# Altium footprint library SignalCommunications.PCBLIB: 466 footprints (part 1 of 30)
Each footprint in its own frame and in the unit in brackets; x right, y up, seen from the top. Pads: shape width x height; smd on the part's side, far side on the other; paste and mask are expansions set on the pad; w line width, h text height; cw(c..) or ccw(c..) is an arc to the next point about the centre after c.
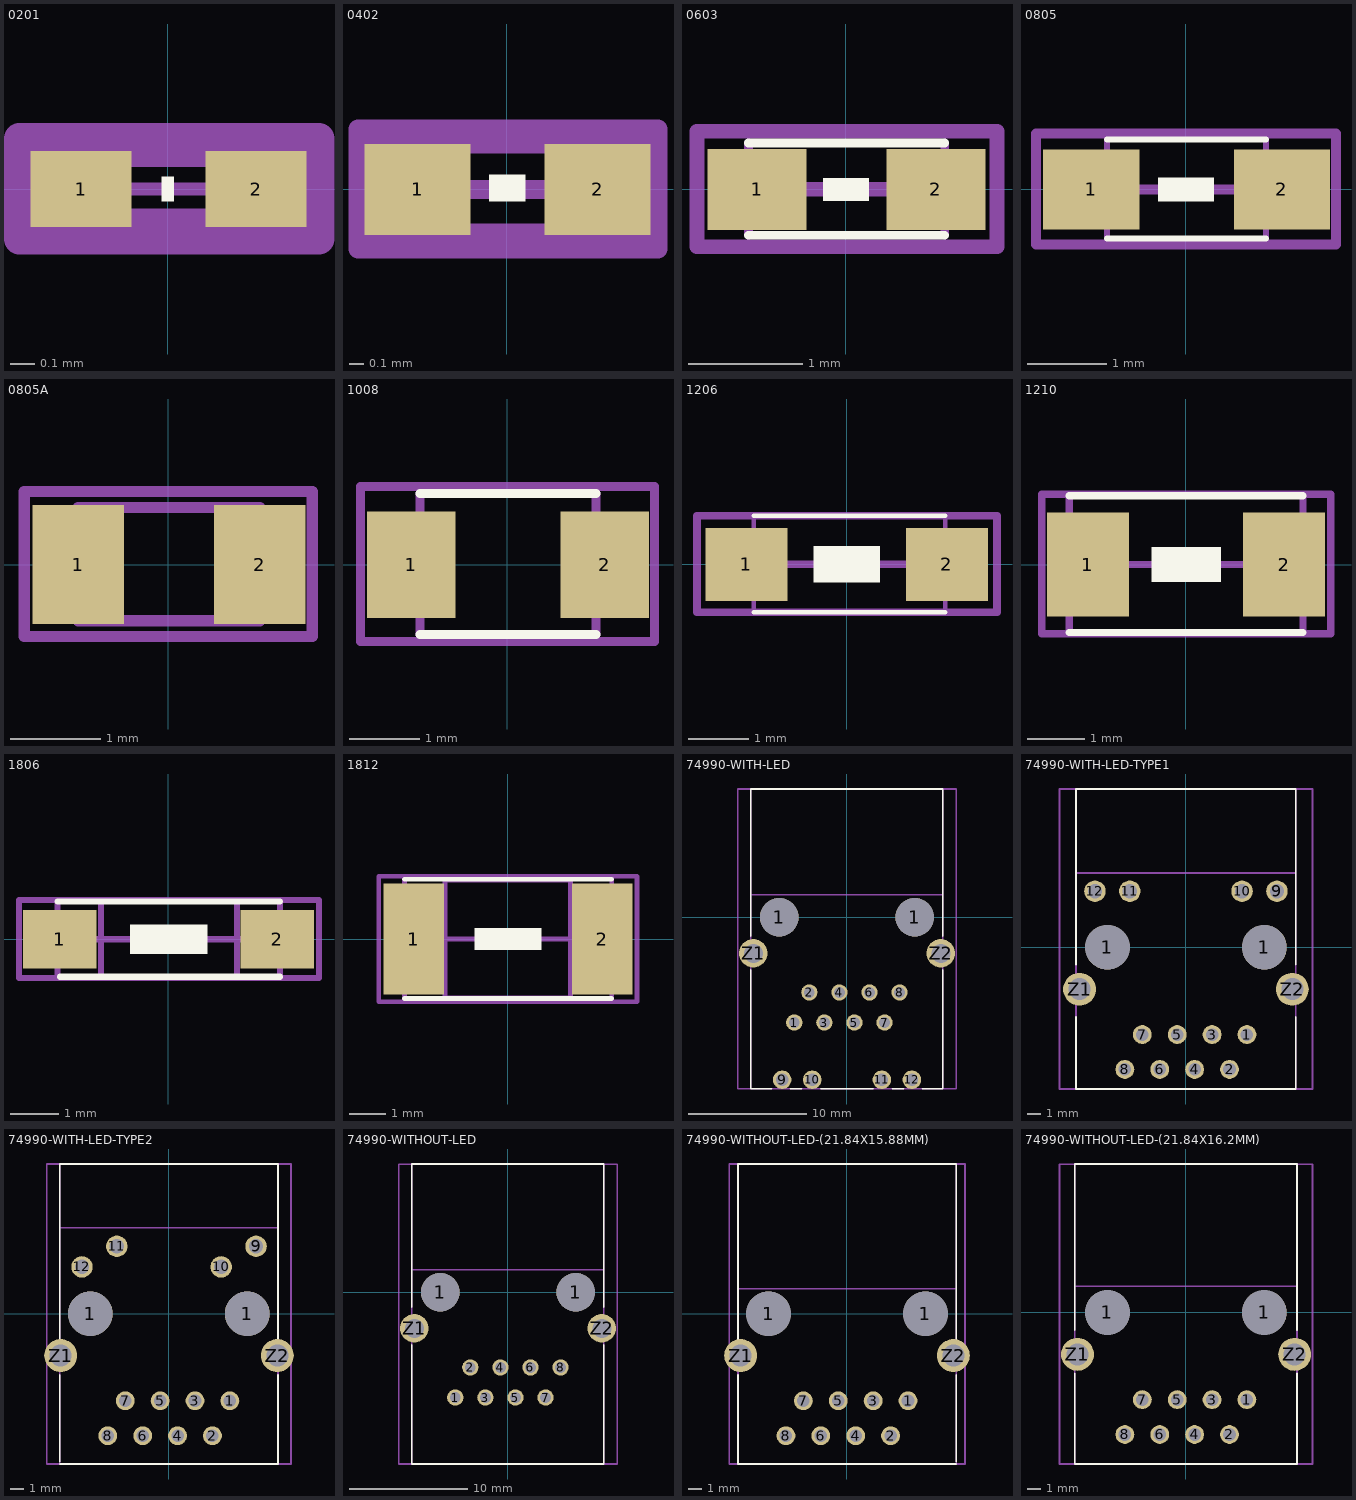
[diagram p0: the footprints below, top view; thin cyan lines are the x and y axes]

## 0201 [mil]
pads (2):
  rect 16x12 smd: 1(-13.78,0) 2(14,0)
Top Overlay:
  rectangle: -0.98,-1.97 1,2
Mechanical 16:
  lines w2: -13.78,0 14,0
  lines w5: -21.59,6 -21.59,-5.56 22,-5.56 22,6 -21.54,6
Mechanical 27:
  lines w5: -23.62,-7.87 24,-7.87 24,8 -23.62,8 -23.62,-7.87

## 0402 [mil]
pads (2):
  rect 28x24 smd: 1(-23.62,0) 2(24,0)
Top Overlay:
  rectangle: -4.72,-3.15 5,4
Mechanical 16:
  lines w5: -23.62,0 24,0 ; -37.29,-11.51 38,-11.51 38,12 -37.29,12 -37.29,-11.51
Mechanical 27:
  lines w5: -39.37,-15.75 40,-15.75 40,16 -39.37,16 -39.37,-15.75

## 0603 [mil]
pads (2):
  rect 34x28 smd: 1(-30.51,0) 2(31,0)
Top Overlay:
  rectangle: -7.87,-3.94 8,4
  lines w3: -33.46,-15.75 34,-15.75 ; -33.46,16 34,16
Mechanical 16:
  lines w3: -33.46,-15.75 -33.46,16 ; 34,-15.75 34,16
  lines w5: -31.5,0 32,0
Mechanical 27:
  lines w5: -51.18,-19.68 52,-19.68 52,20 -51.18,20 -51.18,-19.68

## 0805 [mil]
pads (2):
  rect 48x40 smd: 1(-47.24,0) 2(48,0)
Top Overlay:
  rectangle: -13.78,-5.91 14,6
  lines w3: -39.37,-24.61 40,-24.61 ; -39.37,25 40,25
Mechanical 16:
  lines w3: -39.37,-24.61 -39.37,25 ; 40,-24.61 40,25
  lines w5: -51.18,0 48,0
Mechanical 27:
  lines w5: -74.8,-27.56 75,-27.56 75,28 -74.8,28 -74.8,-27.56

## 0805A [mil]
pads (2):
  rect 40x52 smd: 1(-39.37,0) 2(40,0)
Mechanical 16:
  lines w5: -39.37,-24.61 40,-24.61 40,25 -39.37,25 -39.37,-24.61
Mechanical 27:
  lines w5: -62.99,-31.5 63,-31.5 63,32 -62.99,32 -62.99,-31.5

## 1008 [mil]
pads (2):
  rect 50x60 smd: 1(-54.13,0) 2(55,0)
Top Overlay:
  lines w5: -49.21,-39.37 50,-39.37 ; -49.21,40 50,40
Mechanical 16:
  lines w5: -49.21,-39.37 -49.21,40 ; 50,-39.37 50,40
Mechanical 27:
  lines w5: -82.68,-43.31 83,-43.31 83,44 -82.68,44 -82.68,-43.31

## 1206 [mil]
pads (2):
  rect 54x48 smd: 1(-65.94,0) 2(66,0)
Top Overlay:
  rectangle: -21.65,-11.81 22,12
  lines w3: -61.02,-31.5 65,-31.5 ; -61.02,32 65,32
Mechanical 16:
  lines w3: -61.02,-31.5 -61.02,32 ; 65,-31.5 65,32
  lines w5: -64.96,0 69,0
Mechanical 27:
  lines w5: -98.43,-31.5 99,-31.5 99,32 -98.43,32 -98.43,-31.5

## 1210 [mil]
pads (2):
  rect 56x71 smd: 1(-66.93,0) 2(67,0)
Top Overlay:
  rectangle: -23.62,-11.81 24,12
  lines w5: -79.63,-46.37 80,-46.37 ; -79.63,47 80,47
Mechanical 16:
  lines w5: -79.63,-46.37 -79.63,47 ; -66.93,0 71,0 ; 80,-46.37 80,47
Mechanical 27:
  lines w5: -98.43,-47.24 99,-47.24 99,48 -98.43,48 -98.43,-47.24

## 1806 [mil]
pads (2):
  rect 60x48 smd: 1(-88.58,0) 2(89,0)
Top Overlay:
  rectangle: -31.5,-11.81 32,12
  lines w5: -90.57,31 91,31 ; -88.6,-30.63 91,-30.63
Mechanical 10:
  lines w5: -55.12,-31.5 56,-31.5 56,32 -55.12,32 -55.12,-31.5
Mechanical 16:
  lines w5: -90.57,-30.63 -90.57,31 ; -88.58,0 87,0 ; 91,-30.63 91,31
Mechanical 27:
  lines w5: -122.05,-31.5 123,-31.5 123,32 -122.05,32 -122.05,-31.5

## 1812 [mil]
pads (2):
  rect 65x119 smd: 1(-100.39,0) 2(101,0)
Top Overlay:
  rectangle: -35.43,-11.81 36,12
  lines w5: -110.25,-63.44 111,-63.44 ; -110.25,64 111,64
Mechanical 10:
  lines w5: -66.93,-62.99 67,-62.99 67,63 -66.93,63 -66.93,-62.99
Mechanical 16:
  lines w5: -110.25,-63.44 -110.25,64 ; -90.55,0 95,0 ; 111,-63.44 111,64
Mechanical 27:
  lines w5: -137.8,-66.93 138,-66.93 138,67 -137.8,67 -137.8,-66.93

## 74990-WITH-LED [mil]
pads (16):
  round 128 hole 128: 1(-225,0) 1(225,0)
  round 54 hole 36: 1(-175,-350) 2(-125,-250) 3(-75,-350) 4(-25,-250) 5(25,-350) 6(75,-250) 7(125,-350) 8(175,-250)
  round 61.5 hole 41: 9(-215.16,-540.16) 10(-115.16,-540.16) 11(116,-540.16) 12(216,-540.16)
  round 94.5 hole 63: Z1(-311.02,-120.08) Z2(312,-120.08)
Top Overlay:
  lines w5: -318.9,-175 -318.9,-570.87 -250,-570.87 ; -318.9,-62.5 -318.9,426 319,426 319,-62.5 ; -187.5,-570.87 -150,-570.87 ; -87.5,-570.87 88,-570.87 ; 150,-570.87 188,-570.87 ; 250,-570.87 319,-570.87 319,-175
Mechanical 10:
  lines w5: -318.9,75 319,75 319,426 -318.9,426 -318.9,75
Mechanical 16:
  lines w5: -318.9,-570.87 -318.9,426 319,426 319,-570.87 -318.9,-570.87
  text "1" at -225,-350 h62
  text "8" at 250,-200 h62
Mechanical 27:
  lines w5: -362.5,-570.87 363,-570.87 363,426 -362.5,426 -362.5,-570.87

## 74990-WITH-LED-TYPE1 [mil]
pads (16):
  round 128 hole 128: 1(-225,0) 1(225,0)
  round 54 hole 36: 1(175,-250) 2(125,-350) 3(75,-250) 4(25,-350) 5(-25,-250) 6(-75,-350) 7(-125,-250) 8(-175,-350)
  round 61.5 hole 41: 9(261,161) 10(161,161) 11(-160.83,161) 12(-260.83,161)
  round 94.5 hole 63: Z1(-304.92,-120.08) Z2(305,-120.08)
Top Overlay:
  lines w5: -314.96,-200 -314.96,-406.1 315,-406.1 315,-200 ; -314.96,-50 -314.96,454 315,454 315,-50
Mechanical 10:
  lines w5: -314.96,213 -314.96,454 315,454 315,213 -314.96,213
Mechanical 16:
  lines w5: -314.96,-406.1 315,-406.1 315,454 -314.96,454 -314.96,-406.1
  text "1" at 250,-225 h49.6
  text "8" at -225,-350 h49.6
Mechanical 27:
  lines w5: -362.5,-406.1 363,-406.1 363,454 -362.5,454 -362.5,-406.1

## 74990-WITH-LED-TYPE2 [mil]
pads (16):
  round 128 hole 128: 1(-225,0) 1(225,0)
  round 54 hole 36: 1(175,-250) 2(125,-350) 3(75,-250) 4(25,-350) 5(-25,-250) 6(-75,-350) 7(-125,-250) 8(-175,-350)
  round 61.5 hole 41: 9(250,193) 10(150,134) 11(-149.02,193) 12(-249.02,134)
  round 94.5 hole 63: Z1(-310.04,-120.08) Z2(311,-120.08)
Top Overlay:
  lines w5: -312.6,-431.1 313,-431.1 313,-175 ; -312.6,-425 -312.6,-175 ; -312.6,-75 -312.6,429 313,429 313,-75
Mechanical 10:
  lines w5: -312.6,246 313,246 313,429 -312.6,429 -312.6,246
Mechanical 16:
  lines w5: -312.6,-431.1 313,-431.1 313,429 -312.6,429 -312.6,-431.1
  text "1" at 250,-225 h49.6
  text "8" at -225,-350 h49.6
Mechanical 27:
  lines w5: -350,-431.1 350,-431.1 350,429 -350,429 -350,-431.1

## 74990-WITHOUT-LED [mil]
pads (12):
  round 128 hole 128: 1(-225,0) 1(225,0)
  round 54 hole 36: 1(-175,-350) 2(-125,-250) 3(-75,-350) 4(-25,-250) 5(25,-350) 6(75,-250) 7(125,-350) 8(175,-250)
  round 94.5 hole 63: Z1(-311.02,-120.08) Z2(312,-120.08)
Top Overlay:
  lines w5: -318.9,-175 -318.9,-570.87 319,-570.87 319,-175 ; -318.9,-50 -318.9,426 319,426 319,-50
Mechanical 10:
  lines w5: -318.9,75 319,75 319,425 -318.9,425 -318.9,75
Mechanical 16:
  lines w5: -318.9,-570.87 -318.9,426 319,426 319,-570.87 -318.9,-570.87
  text "1" at -225,-350 h49.6
  text "8" at 250,-225 h49.6
Mechanical 27:
  lines w5: -362.5,-570.87 363,-570.87 363,425 -362.5,425 -362.5,-570.87

## 74990-WITHOUT-LED-(21.84X15.88MM) [mil]
pads (12):
  round 128 hole 128: 1(-225,0) 1(225,0)
  round 54 hole 36: 1(175,-250) 2(125,-350) 3(75,-250) 4(25,-350) 5(-25,-250) 6(-75,-350) 7(-125,-250) 8(-175,-350)
  round 94.5 hole 63: Z1(-304.92,-120.08) Z2(305,-120.08)
Top Overlay:
  lines w5: -312.6,-175 -312.6,-431.1 313,-431.1 ; -312.6,-75 -312.6,429 313,429 313,-75 ; 313,-425 313,-175
Mechanical 10:
  lines w5: -312.6,71 313,71 313,429 -312.6,429 -312.6,71
Mechanical 16:
  lines w5: -312.6,-431.1 313,-431.1 313,429 -312.6,429 -312.6,-431.1
  text "1" at 250,-225 h49.6
  text "8" at -225,-350 h49.6
Mechanical 27:
  lines w5: -337.5,-431.1 338,-431.1 338,429 -337.5,429 -337.5,-431.1

## 74990-WITHOUT-LED-(21.84X16.2MM) [mil]
pads (12):
  round 128 hole 128: 1(-225,0) 1(225,0)
  round 54 hole 36: 1(175,-250) 2(125,-350) 3(75,-250) 4(25,-350) 5(-25,-250) 6(-75,-350) 7(-125,-250) 8(-175,-350)
  round 94.5 hole 63: Z1(-311.02,-120.08) Z2(312,-120.08)
Top Overlay:
  lines w5: -318.9,-175 -318.9,-434.65 319,-434.65 319,-175 ; -318.9,-50 -318.9,426 319,426 319,-50 ; -175,-434.65 -150,-434.65 ; -75,-434.65 75,-434.65 ; 150,-434.65 175,-434.65
Mechanical 10:
  lines w5: -318.9,75 319,75 319,425 -318.9,425 -318.9,75
Mechanical 16:
  lines w5: -318.9,-434.65 -318.9,426 319,426 319,-434.65 -318.9,-434.65
  text "1" at 250,-200 h49.6
  text "8" at -225,-350 h49.6
Mechanical 27:
  lines w5: -362.5,-434.65 363,-434.65 363,425 -362.5,425 -362.5,-434.65